# Altium schematic symbol library ADuM5240.Schlib: 1 symbol
Pins are listed as number, name and electrical type; pins without a type are passive.

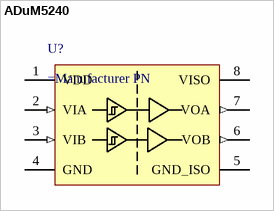
[diagram p0: symbol ADuM5240]

## ADuM5240
designator U?
Digital Isolator, 2-Ch, isoPower
pins: 1 VDD (power), 2 VIA (in), 3 VIB (in), 4 GND (power), 5 GND_ISO (power), 6 VOB (out), 7 VOA (out), 8 VISO (power)